# Altium integrated library ALTIUM-WCAP-ASLI-rev16b.IntLib: 107 symbols (part 1 of 2)
Pins are listed as number, name and electrical type; pins without a type are passive.

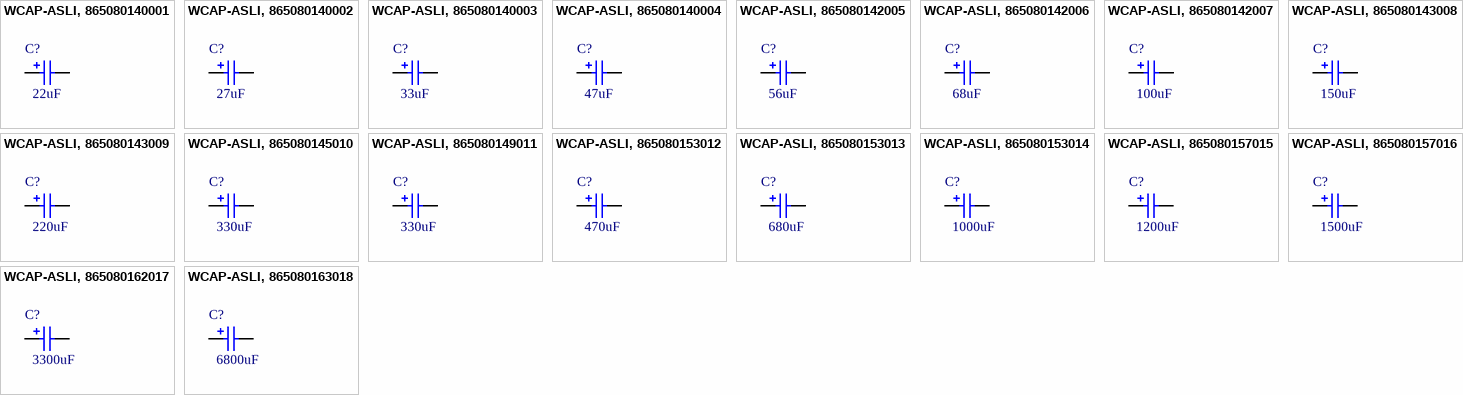
[diagram p0: symbols WCAP-ASLI, 865080140001 to WCAP-ASLI, 865080163018]

## WCAP-ASLI, 865080140001
designator C?, comment 22uF
WCAP-ASLI Aluminum Electrolytic Capacitors, 22uF; PartNumber: 865080140001; RatedVoltage: 6.3V; PublishedDate: July 2016; Publisher: Wurth Elektronik; ComponentLink1Description: Manufacturer; ComponentLink1URL: http://www.we-online.de; ComponentLink2Description: Datasheet; ComponentLink2URL: http://katalog.we-online.com/pbs/datasheet/865080140001.pdf; Value: 22uF; Size: 4mmx5.5mm
footprint WCAP-ASLI_4x5.5
pins: 1 P, 2 N

## WCAP-ASLI, 865080140002
designator C?, comment 27uF
WCAP-ASLI Aluminum Electrolytic Capacitors, 27uF; PartNumber: 865080140002; RatedVoltage: 6.3V; PublishedDate: July 2016; Publisher: Wurth Elektronik; ComponentLink1Description: Manufacturer; ComponentLink1URL: http://www.we-online.de; ComponentLink2Description: Datasheet; ComponentLink2URL: http://katalog.we-online.com/pbs/datasheet/865080140002.pdf; Value: 27uF; Size: 4mmx5.5mm
footprint WCAP-ASLI_4x5.5
pins: 1 P, 2 N

## WCAP-ASLI, 865080140003
designator C?, comment 33uF
WCAP-ASLI Aluminum Electrolytic Capacitors, 33uF; PartNumber: 865080140003; RatedVoltage: 6.3V; PublishedDate: July 2016; Publisher: Wurth Elektronik; ComponentLink1Description: Manufacturer; ComponentLink1URL: http://www.we-online.de; ComponentLink2Description: Datasheet; ComponentLink2URL: http://katalog.we-online.com/pbs/datasheet/865080140003.pdf; Value: 33uF; Size: 4mmx5.5mm
footprint WCAP-ASLI_4x5.5
pins: 1 P, 2 N

## WCAP-ASLI, 865080140004
designator C?, comment 47uF
WCAP-ASLI Aluminum Electrolytic Capacitors, 47uF; PartNumber: 865080140004; RatedVoltage: 6.3V; PublishedDate: July 2016; Publisher: Wurth Elektronik; ComponentLink1Description: Manufacturer; ComponentLink1URL: http://www.we-online.de; ComponentLink2Description: Datasheet; ComponentLink2URL: http://katalog.we-online.com/pbs/datasheet/865080140004.pdf; Value: 47uF; Size: 4mmx5.5mm
footprint WCAP-ASLI_4x5.5
pins: 1 P, 2 N

## WCAP-ASLI, 865080142005
designator C?, comment 56uF
WCAP-ASLI Aluminum Electrolytic Capacitors, 56uF; PartNumber: 865080142005; RatedVoltage: 6.3V; PublishedDate: July 2016; Publisher: Wurth Elektronik; ComponentLink1Description: Manufacturer; ComponentLink1URL: http://www.we-online.de; ComponentLink2Description: Datasheet; ComponentLink2URL: http://katalog.we-online.com/pbs/datasheet/865080142005.pdf; Value: 56uF; Size: 5mmx5.5mm
footprint WCAP-ASLI_5x5.5
pins: 1 P, 2 N

## WCAP-ASLI, 865080142006
designator C?, comment 68uF
WCAP-ASLI Aluminum Electrolytic Capacitors, 68uF; PartNumber: 865080142006; RatedVoltage: 6.3V; PublishedDate: July 2016; Publisher: Wurth Elektronik; ComponentLink1Description: Manufacturer; ComponentLink1URL: http://www.we-online.de; ComponentLink2Description: Datasheet; ComponentLink2URL: http://katalog.we-online.com/pbs/datasheet/865080142006.pdf; Value: 68uF; Size: 5mmx5.5mm
footprint WCAP-ASLI_5x5.5
pins: 1 P, 2 N

## WCAP-ASLI, 865080142007
designator C?, comment 100uF
WCAP-ASLI Aluminum Electrolytic Capacitors, 100uF; PartNumber: 865080142007; RatedVoltage: 6.3V; PublishedDate: July 2016; Publisher: Wurth Elektronik; ComponentLink1Description: Manufacturer; ComponentLink1URL: http://www.we-online.de; ComponentLink2Description: Datasheet; ComponentLink2URL: http://katalog.we-online.com/pbs/datasheet/865080142007.pdf; Value: 100uF; Size: 5mmx5.5mm
footprint WCAP-ASLI_5x5.5
pins: 1 P, 2 N

## WCAP-ASLI, 865080143008
designator C?, comment 150uF
WCAP-ASLI Aluminum Electrolytic Capacitors, 150uF; PartNumber: 865080143008; RatedVoltage: 6.3V; PublishedDate: July 2016; Publisher: Wurth Elektronik; ComponentLink1Description: Manufacturer; ComponentLink1URL: http://www.we-online.de; ComponentLink2Description: Datasheet; ComponentLink2URL: http://katalog.we-online.com/pbs/datasheet/865080143008.pdf; Value: 150uF; Size: 6.3mmx5.5mm
footprint WCAP-ASLI_6.3x5.5
pins: 1 P, 2 N

## WCAP-ASLI, 865080143009
designator C?, comment 220uF
WCAP-ASLI Aluminum Electrolytic Capacitors, 220uF; PartNumber: 865080143009; RatedVoltage: 6.3V; PublishedDate: July 2016; Publisher: Wurth Elektronik; ComponentLink1Description: Manufacturer; ComponentLink1URL: http://www.we-online.de; ComponentLink2Description: Datasheet; ComponentLink2URL: http://katalog.we-online.com/pbs/datasheet/865080143009.pdf; Value: 220uF; Size: 6.3mmx5.5mm
footprint WCAP-ASLI_6.3x5.5
pins: 1 P, 2 N

## WCAP-ASLI, 865080145010
designator C?, comment 330uF
WCAP-ASLI Aluminum Electrolytic Capacitors, 330uF; PartNumber: 865080145010; RatedVoltage: 6.3V; PublishedDate: July 2016; Publisher: Wurth Elektronik; ComponentLink1Description: Manufacturer; ComponentLink1URL: http://www.we-online.de; ComponentLink2Description: Datasheet; ComponentLink2URL: http://katalog.we-online.com/pbs/datasheet/865080145010.pdf; Value: 330uF; Size: 6.3mmx7.7mm
footprint WCAP-ASLI_6.3x7.7
pins: 1 P, 2 N

## WCAP-ASLI, 865080149011
designator C?, comment 330uF
WCAP-ASLI Aluminum Electrolytic Capacitors, 330uF; PartNumber: 865080149011; RatedVoltage: 6.3V; PublishedDate: July 2016; Publisher: Wurth Elektronik; ComponentLink1Description: Manufacturer; ComponentLink1URL: http://www.we-online.de; ComponentLink2Description: Datasheet; ComponentLink2URL: http://katalog.we-online.com/pbs/datasheet/865080149011.pdf; Value: 330uF; Size: 8mmx6.5mm
footprint WCAP-ASLI_8x6.5
pins: 1 P, 2 N

## WCAP-ASLI, 865080153012
designator C?, comment 470uF
WCAP-ASLI Aluminum Electrolytic Capacitors, 470uF; PartNumber: 865080153012; RatedVoltage: 6.3V; PublishedDate: July 2016; Publisher: Wurth Elektronik; ComponentLink1Description: Manufacturer; ComponentLink1URL: http://www.we-online.de; ComponentLink2Description: Datasheet; ComponentLink2URL: http://katalog.we-online.com/pbs/datasheet/865080153012.pdf; Value: 470uF; Size: 8mmx10.5mm
footprint WCAP-ASLI_8x10.5
pins: 1 P, 2 N

## WCAP-ASLI, 865080153013
designator C?, comment 680uF
WCAP-ASLI Aluminum Electrolytic Capacitors, 680uF; PartNumber: 865080153013; RatedVoltage: 6.3V; PublishedDate: July 2016; Publisher: Wurth Elektronik; ComponentLink1Description: Manufacturer; ComponentLink1URL: http://www.we-online.de; ComponentLink2Description: Datasheet; ComponentLink2URL: http://katalog.we-online.com/pbs/datasheet/865080153013.pdf; Value: 680uF; Size: 8mmx10.5mm
footprint WCAP-ASLI_8x10.5
pins: 1 P, 2 N

## WCAP-ASLI, 865080153014
designator C?, comment 1000uF
WCAP-ASLI Aluminum Electrolytic Capacitors, 1000uF; PartNumber: 865080153014; RatedVoltage: 6.3V; PublishedDate: July 2016; Publisher: Wurth Elektronik; ComponentLink1Description: Manufacturer; ComponentLink1URL: http://www.we-online.de; ComponentLink2Description: Datasheet; ComponentLink2URL: http://katalog.we-online.com/pbs/datasheet/865080153014.pdf; Value: 1000uF; Size: 8mmx10.5mm
footprint WCAP-ASLI_8x10.5
pins: 1 P, 2 N

## WCAP-ASLI, 865080157015
designator C?, comment 1200uF
WCAP-ASLI Aluminum Electrolytic Capacitors, 1200uF; PartNumber: 865080157015; RatedVoltage: 6.3V; PublishedDate: July 2016; Publisher: Wurth Elektronik; ComponentLink1Description: Manufacturer; ComponentLink1URL: http://www.we-online.de; ComponentLink2Description: Datasheet; ComponentLink2URL: http://katalog.we-online.com/pbs/datasheet/865080157015.pdf; Value: 1200uF; Size: 10mmx10.5mm
footprint WCAP-ASLI_10x10.5
pins: 1 P, 2 N

## WCAP-ASLI, 865080157016
designator C?, comment 1500uF
WCAP-ASLI Aluminum Electrolytic Capacitors, 1500uF; PartNumber: 865080157016; RatedVoltage: 6.3V; PublishedDate: July 2016; Publisher: Wurth Elektronik; ComponentLink1Description: Manufacturer; ComponentLink1URL: http://www.we-online.de; ComponentLink2Description: Datasheet; ComponentLink2URL: http://katalog.we-online.com/pbs/datasheet/865080157016.pdf; Value: 1500uF; Size: 10mmx10.5mm
footprint WCAP-ASLI_10x10.5
pins: 1 P, 2 N

## WCAP-ASLI, 865080162017
designator C?, comment 3300uF
WCAP-ASLI Aluminum Electrolytic Capacitors, 3300uF; PartNumber: 865080162017; RatedVoltage: 6.3V; PublishedDate: July 2016; Publisher: Wurth Elektronik; ComponentLink1Description: Manufacturer; ComponentLink1URL: http://www.we-online.de; ComponentLink2Description: Datasheet; ComponentLink2URL: http://katalog.we-online.com/pbs/datasheet/865080162017.pdf; Value: 3300uF; Size: 12.5mmx14mm
footprint WCAP-ASLI_12.5x14
pins: 1 P, 2 N

## WCAP-ASLI, 865080163018
designator C?, comment 6800uF
WCAP-ASLI Aluminum Electrolytic Capacitors, 6800uF; PartNumber: 865080163018; RatedVoltage: 6.3V; PublishedDate: July 2016; Publisher: Wurth Elektronik; ComponentLink1Description: Manufacturer; ComponentLink1URL: http://www.we-online.de; ComponentLink2Description: Datasheet; ComponentLink2URL: http://katalog.we-online.com/pbs/datasheet/865080163018.pdf; Value: 6800uF; Size: 16mmx17mm
footprint WCAP-ASLI_16x17
pins: 1 P, 2 N


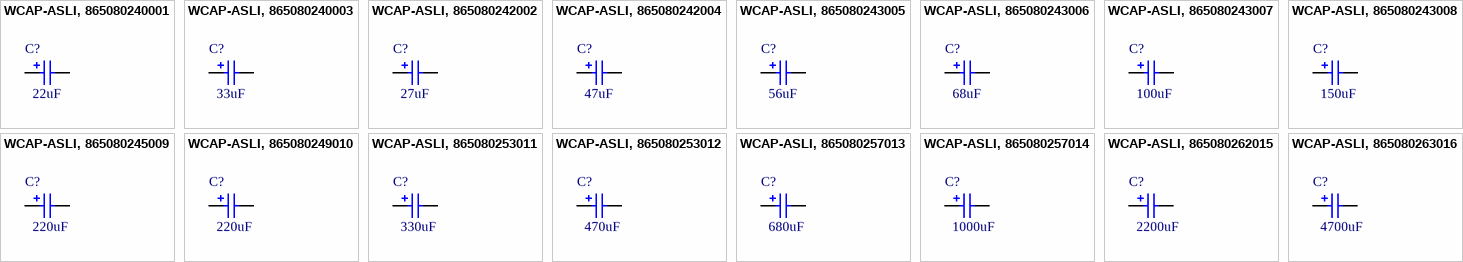
[diagram p1: symbols WCAP-ASLI, 865080240001 to WCAP-ASLI, 865080263016]

## WCAP-ASLI, 865080240001
designator C?, comment 22uF
WCAP-ASLI Aluminum Electrolytic Capacitors, 22uF; PartNumber: 865080240001; RatedVoltage: 10V; PublishedDate: July 2016; Publisher: Wurth Elektronik; ComponentLink1Description: Manufacturer; ComponentLink1URL: http://www.we-online.de; ComponentLink2Description: Datasheet; ComponentLink2URL: http://katalog.we-online.com/pbs/datasheet/865080240001.pdf; Value: 22uF; Size: 4mmx5.5mm
footprint WCAP-ASLI_4x5.5
pins: 1 P, 2 N

## WCAP-ASLI, 865080240003
designator C?, comment 33uF
WCAP-ASLI Aluminum Electrolytic Capacitors, 33uF; PartNumber: 865080240003; RatedVoltage: 10V; PublishedDate: July 2016; Publisher: Wurth Elektronik; ComponentLink1Description: Manufacturer; ComponentLink1URL: http://www.we-online.de; ComponentLink2Description: Datasheet; ComponentLink2URL: http://katalog.we-online.com/pbs/datasheet/865080240003.pdf; Value: 33uF; Size: 4mmx5.5mm
footprint WCAP-ASLI_4x5.5
pins: 1 P, 2 N

## WCAP-ASLI, 865080242002
designator C?, comment 27uF
WCAP-ASLI Aluminum Electrolytic Capacitors, 27uF; PartNumber: 865080242002; RatedVoltage: 10V; PublishedDate: July 2016; Publisher: Wurth Elektronik; ComponentLink1Description: Manufacturer; ComponentLink1URL: http://www.we-online.de; ComponentLink2Description: Datasheet; ComponentLink2URL: http://katalog.we-online.com/pbs/datasheet/865080242002.pdf; Value: 27uF; Size: 5mmx5.5mm
footprint WCAP-ASLI_5x5.5
pins: 1 P, 2 N

## WCAP-ASLI, 865080242004
designator C?, comment 47uF
WCAP-ASLI Aluminum Electrolytic Capacitors, 47uF; PartNumber: 865080242004; RatedVoltage: 10V; PublishedDate: July 2016; Publisher: Wurth Elektronik; ComponentLink1Description: Manufacturer; ComponentLink1URL: http://www.we-online.de; ComponentLink2Description: Datasheet; ComponentLink2URL: http://katalog.we-online.com/pbs/datasheet/865080242004.pdf; Value: 47uF; Size: 5mmx5.5mm
footprint WCAP-ASLI_5x5.5
pins: 1 P, 2 N

## WCAP-ASLI, 865080243005
designator C?, comment 56uF
WCAP-ASLI Aluminum Electrolytic Capacitors, 56uF; PartNumber: 865080243005; RatedVoltage: 10V; PublishedDate: July 2016; Publisher: Wurth Elektronik; ComponentLink1Description: Manufacturer; ComponentLink1URL: http://www.we-online.de; ComponentLink2Description: Datasheet; ComponentLink2URL: http://katalog.we-online.com/pbs/datasheet/865080243005.pdf; Value: 56uF; Size: 6.3mmx5.5mm
footprint WCAP-ASLI_6.3x5.5
pins: 1 P, 2 N

## WCAP-ASLI, 865080243006
designator C?, comment 68uF
WCAP-ASLI Aluminum Electrolytic Capacitors, 68uF; PartNumber: 865080243006; RatedVoltage: 10V; PublishedDate: July 2016; Publisher: Wurth Elektronik; ComponentLink1Description: Manufacturer; ComponentLink1URL: http://www.we-online.de; ComponentLink2Description: Datasheet; ComponentLink2URL: http://katalog.we-online.com/pbs/datasheet/865080243006.pdf; Value: 68uF; Size: 6.3mmx5.5mm
footprint WCAP-ASLI_6.3x5.5
pins: 1 P, 2 N

## WCAP-ASLI, 865080243007
designator C?, comment 100uF
WCAP-ASLI Aluminum Electrolytic Capacitors, 100uF; PartNumber: 865080243007; RatedVoltage: 10V; PublishedDate: July 2016; Publisher: Wurth Elektronik; ComponentLink1Description: Manufacturer; ComponentLink1URL: http://www.we-online.de; ComponentLink2Description: Datasheet; ComponentLink2URL: http://katalog.we-online.com/pbs/datasheet/865080243007.pdf; Value: 100uF; Size: 6.3mmx5.5mm
footprint WCAP-ASLI_6.3x5.5
pins: 1 P, 2 N

## WCAP-ASLI, 865080243008
designator C?, comment 150uF
WCAP-ASLI Aluminum Electrolytic Capacitors, 150uF; PartNumber: 865080243008; RatedVoltage: 10V; PublishedDate: July 2016; Publisher: Wurth Elektronik; ComponentLink1Description: Manufacturer; ComponentLink1URL: http://www.we-online.de; ComponentLink2Description: Datasheet; ComponentLink2URL: http://katalog.we-online.com/pbs/datasheet/865080243008.pdf; Value: 150uF; Size: 6.3mmx5.5mm
footprint WCAP-ASLI_6.3x5.5
pins: 1 P, 2 N

## WCAP-ASLI, 865080245009
designator C?, comment 220uF
WCAP-ASLI Aluminum Electrolytic Capacitors, 220uF; PartNumber: 865080245009; RatedVoltage: 10V; PublishedDate: July 2016; Publisher: Wurth Elektronik; ComponentLink1Description: Manufacturer; ComponentLink1URL: http://www.we-online.de; ComponentLink2Description: Datasheet; ComponentLink2URL: http://katalog.we-online.com/pbs/datasheet/865080245009.pdf; Value: 220uF; Size: 6.3mmx7.7mm
footprint WCAP-ASLI_6.3x7.7
pins: 1 P, 2 N

## WCAP-ASLI, 865080249010
designator C?, comment 220uF
WCAP-ASLI Aluminum Electrolytic Capacitors, 220uF; PartNumber: 865080249010; RatedVoltage: 10V; PublishedDate: July 2016; Publisher: Wurth Elektronik; ComponentLink1Description: Manufacturer; ComponentLink1URL: http://www.we-online.de; ComponentLink2Description: Datasheet; ComponentLink2URL: http://katalog.we-online.com/pbs/datasheet/865080249010.pdf; Value: 220uF; Size: 8mmx6.5mm
footprint WCAP-ASLI_8x6.5
pins: 1 P, 2 N

## WCAP-ASLI, 865080253011
designator C?, comment 330uF
WCAP-ASLI Aluminum Electrolytic Capacitors, 330uF; PartNumber: 865080253011; RatedVoltage: 10V; PublishedDate: July 2016; Publisher: Wurth Elektronik; ComponentLink1Description: Manufacturer; ComponentLink1URL: http://www.we-online.de; ComponentLink2Description: Datasheet; ComponentLink2URL: http://katalog.we-online.com/pbs/datasheet/865080253011.pdf; Value: 330uF; Size: 8mmx10.5mm
footprint WCAP-ASLI_8x10.5
pins: 1 P, 2 N

## WCAP-ASLI, 865080253012
designator C?, comment 470uF
WCAP-ASLI Aluminum Electrolytic Capacitors, 470uF; PartNumber: 865080253012; RatedVoltage: 10V; PublishedDate: July 2016; Publisher: Wurth Elektronik; ComponentLink1Description: Manufacturer; ComponentLink1URL: http://www.we-online.de; ComponentLink2Description: Datasheet; ComponentLink2URL: http://katalog.we-online.com/pbs/datasheet/865080253012.pdf; Value: 470uF; Size: 8mmx10.5mm
footprint WCAP-ASLI_8x10.5
pins: 1 P, 2 N

## WCAP-ASLI, 865080257013
designator C?, comment 680uF
WCAP-ASLI Aluminum Electrolytic Capacitors, 680uF; PartNumber: 865080257013; RatedVoltage: 10V; PublishedDate: July 2016; Publisher: Wurth Elektronik; ComponentLink1Description: Manufacturer; ComponentLink1URL: http://www.we-online.de; ComponentLink2Description: Datasheet; ComponentLink2URL: http://katalog.we-online.com/pbs/datasheet/865080257013.pdf; Value: 680uF; Size: 10mmx10.5mm
footprint WCAP-ASLI_10x10.5
pins: 1 P, 2 N

## WCAP-ASLI, 865080257014
designator C?, comment 1000uF
WCAP-ASLI Aluminum Electrolytic Capacitors, 1000uF; PartNumber: 865080257014; RatedVoltage: 10V; PublishedDate: July 2016; Publisher: Wurth Elektronik; ComponentLink1Description: Manufacturer; ComponentLink1URL: http://www.we-online.de; ComponentLink2Description: Datasheet; ComponentLink2URL: http://katalog.we-online.com/pbs/datasheet/865080257014.pdf; Value: 1000uF; Size: 10mmx10.5mm
footprint WCAP-ASLI_10x10.5
pins: 1 P, 2 N

## WCAP-ASLI, 865080262015
designator C?, comment 2200uF
WCAP-ASLI Aluminum Electrolytic Capacitors, 2200uF; PartNumber: 865080262015; RatedVoltage: 10V; PublishedDate: July 2016; Publisher: Wurth Elektronik; ComponentLink1Description: Manufacturer; ComponentLink1URL: http://www.we-online.de; ComponentLink2Description: Datasheet; ComponentLink2URL: http://katalog.we-online.com/pbs/datasheet/865080262015.pdf; Value: 2200uF; Size: 12.5mmx14mm
footprint WCAP-ASLI_12.5x14
pins: 1 P, 2 N

## WCAP-ASLI, 865080263016
designator C?, comment 4700uF
WCAP-ASLI Aluminum Electrolytic Capacitors, 4700uF; PartNumber: 865080263016; RatedVoltage: 10V; PublishedDate: July 2016; Publisher: Wurth Elektronik; ComponentLink1Description: Manufacturer; ComponentLink1URL: http://www.we-online.de; ComponentLink2Description: Datasheet; ComponentLink2URL: http://katalog.we-online.com/pbs/datasheet/865080263016.pdf; Value: 4700uF; Size: 16mmx17mm
footprint WCAP-ASLI_16x17
pins: 1 P, 2 N


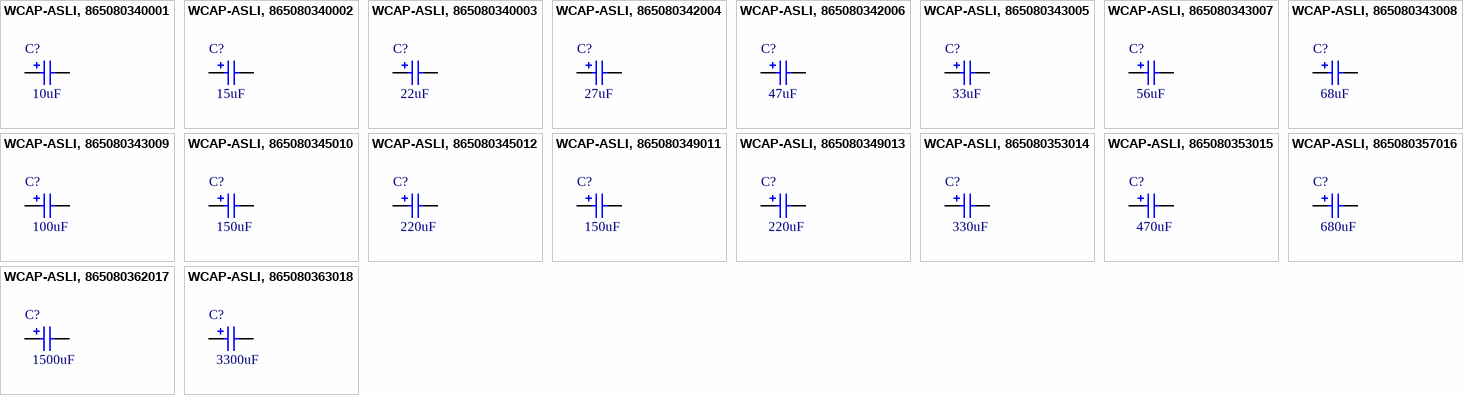
[diagram p2: symbols WCAP-ASLI, 865080340001 to WCAP-ASLI, 865080363018]

## WCAP-ASLI, 865080340001
designator C?, comment 10uF
WCAP-ASLI Aluminum Electrolytic Capacitors, 10uF; PartNumber: 865080340001; RatedVoltage: 16V; PublishedDate: July 2016; Publisher: Wurth Elektronik; ComponentLink1Description: Manufacturer; ComponentLink1URL: http://www.we-online.de; ComponentLink2Description: Datasheet; ComponentLink2URL: http://katalog.we-online.com/pbs/datasheet/865080340001.pdf; Value: 10uF; Size: 4mmx5.5mm
footprint WCAP-ASLI_4x5.5
pins: 1 P, 2 N

## WCAP-ASLI, 865080340002
designator C?, comment 15uF
WCAP-ASLI Aluminum Electrolytic Capacitors, 15uF; PartNumber: 865080340002; RatedVoltage: 16V; PublishedDate: July 2016; Publisher: Wurth Elektronik; ComponentLink1Description: Manufacturer; ComponentLink1URL: http://www.we-online.de; ComponentLink2Description: Datasheet; ComponentLink2URL: http://katalog.we-online.com/pbs/datasheet/865080340002.pdf; Value: 15uF; Size: 4mmx5.5mm
footprint WCAP-ASLI_4x5.5
pins: 1 P, 2 N

## WCAP-ASLI, 865080340003
designator C?, comment 22uF
WCAP-ASLI Aluminum Electrolytic Capacitors, 22uF; PartNumber: 865080340003; RatedVoltage: 16V; PublishedDate: July 2016; Publisher: Wurth Elektronik; ComponentLink1Description: Manufacturer; ComponentLink1URL: http://www.we-online.de; ComponentLink2Description: Datasheet; ComponentLink2URL: http://katalog.we-online.com/pbs/datasheet/865080340003.pdf; Value: 22uF; Size: 4mmx5.5mm
footprint WCAP-ASLI_4x5.5
pins: 1 P, 2 N

## WCAP-ASLI, 865080342004
designator C?, comment 27uF
WCAP-ASLI Aluminum Electrolytic Capacitors, 27uF; PartNumber: 865080342004; RatedVoltage: 16V; PublishedDate: July 2016; Publisher: Wurth Elektronik; ComponentLink1Description: Manufacturer; ComponentLink1URL: http://www.we-online.de; ComponentLink2Description: Datasheet; ComponentLink2URL: http://katalog.we-online.com/pbs/datasheet/865080342004.pdf; Value: 27uF; Size: 5mmx5.5mm
footprint WCAP-ASLI_5x5.5
pins: 1 P, 2 N

## WCAP-ASLI, 865080342006
designator C?, comment 47uF
WCAP-ASLI Aluminum Electrolytic Capacitors, 47uF; PartNumber: 865080342006; RatedVoltage: 16V; PublishedDate: July 2016; Publisher: Wurth Elektronik; ComponentLink1Description: Manufacturer; ComponentLink1URL: http://www.we-online.de; ComponentLink2Description: Datasheet; ComponentLink2URL: http://katalog.we-online.com/pbs/datasheet/865080342006.pdf; Value: 47uF; Size: 5mmx5.5mm
footprint WCAP-ASLI_5x5.5
pins: 1 P, 2 N

## WCAP-ASLI, 865080343005
designator C?, comment 33uF
WCAP-ASLI Aluminum Electrolytic Capacitors, 33uF; PartNumber: 865080343005; RatedVoltage: 16V; PublishedDate: July 2016; Publisher: Wurth Elektronik; ComponentLink1Description: Manufacturer; ComponentLink1URL: http://www.we-online.de; ComponentLink2Description: Datasheet; ComponentLink2URL: http://katalog.we-online.com/pbs/datasheet/865080343005.pdf; Value: 33uF; Size: 6.3mmx5.5mm
footprint WCAP-ASLI_6.3x5.5
pins: 1 P, 2 N

## WCAP-ASLI, 865080343007
designator C?, comment 56uF
WCAP-ASLI Aluminum Electrolytic Capacitors, 56uF; PartNumber: 865080343007; RatedVoltage: 16V; PublishedDate: July 2016; Publisher: Wurth Elektronik; ComponentLink1Description: Manufacturer; ComponentLink1URL: http://www.we-online.de; ComponentLink2Description: Datasheet; ComponentLink2URL: http://katalog.we-online.com/pbs/datasheet/865080343007.pdf; Value: 56uF; Size: 6.3mmx5.5mm
footprint WCAP-ASLI_6.3x5.5
pins: 1 P, 2 N

## WCAP-ASLI, 865080343008
designator C?, comment 68uF
WCAP-ASLI Aluminum Electrolytic Capacitors, 68uF; PartNumber: 865080343008; RatedVoltage: 16V; PublishedDate: July 2016; Publisher: Wurth Elektronik; ComponentLink1Description: Manufacturer; ComponentLink1URL: http://www.we-online.de; ComponentLink2Description: Datasheet; ComponentLink2URL: http://katalog.we-online.com/pbs/datasheet/865080343008.pdf; Value: 68uF; Size: 6.3mmx5.5mm
footprint WCAP-ASLI_6.3x5.5
pins: 1 P, 2 N

## WCAP-ASLI, 865080343009
designator C?, comment 100uF
WCAP-ASLI Aluminum Electrolytic Capacitors, 100uF; PartNumber: 865080343009; RatedVoltage: 16V; PublishedDate: July 2016; Publisher: Wurth Elektronik; ComponentLink1Description: Manufacturer; ComponentLink1URL: http://www.we-online.de; ComponentLink2Description: Datasheet; ComponentLink2URL: http://katalog.we-online.com/pbs/datasheet/865080343009.pdf; Value: 100uF; Size: 6.3mmx5.5mm
footprint WCAP-ASLI_6.3x5.5
pins: 1 P, 2 N

## WCAP-ASLI, 865080345010
designator C?, comment 150uF
WCAP-ASLI Aluminum Electrolytic Capacitors, 150uF; PartNumber: 865080345010; RatedVoltage: 16V; PublishedDate: July 2016; Publisher: Wurth Elektronik; ComponentLink1Description: Manufacturer; ComponentLink1URL: http://www.we-online.de; ComponentLink2Description: Datasheet; ComponentLink2URL: http://katalog.we-online.com/pbs/datasheet/865080345010.pdf; Value: 150uF; Size: 6.3mmx7.7mm
footprint WCAP-ASLI_6.3x7.7
pins: 1 P, 2 N

## WCAP-ASLI, 865080345012
designator C?, comment 220uF
WCAP-ASLI Aluminum Electrolytic Capacitors, 220uF; PartNumber: 865080345012; RatedVoltage: 16V; PublishedDate: July 2016; Publisher: Wurth Elektronik; ComponentLink1Description: Manufacturer; ComponentLink1URL: http://www.we-online.de; ComponentLink2Description: Datasheet; ComponentLink2URL: http://katalog.we-online.com/pbs/datasheet/865080345012.pdf; Value: 220uF; Size: 6.3mmx7.7mm
footprint WCAP-ASLI_6.3x7.7
pins: 1 P, 2 N

## WCAP-ASLI, 865080349011
designator C?, comment 150uF
WCAP-ASLI Aluminum Electrolytic Capacitors, 150uF; PartNumber: 865080349011; RatedVoltage: 16V; PublishedDate: July 2016; Publisher: Wurth Elektronik; ComponentLink1Description: Manufacturer; ComponentLink1URL: http://www.we-online.de; ComponentLink2Description: Datasheet; ComponentLink2URL: http://katalog.we-online.com/pbs/datasheet/865080349011.pdf; Value: 150uF; Size: 8mmx6.5mm
footprint WCAP-ASLI_8x6.5
pins: 1 P, 2 N

## WCAP-ASLI, 865080349013
designator C?, comment 220uF
WCAP-ASLI Aluminum Electrolytic Capacitors, 220uF; PartNumber: 865080349013; RatedVoltage: 16V; PublishedDate: July 2016; Publisher: Wurth Elektronik; ComponentLink1Description: Manufacturer; ComponentLink1URL: http://www.we-online.de; ComponentLink2Description: Datasheet; ComponentLink2URL: http://katalog.we-online.com/pbs/datasheet/865080349013.pdf; Value: 220uF; Size: 8mmx6.5mm
footprint WCAP-ASLI_8x6.5
pins: 1 P, 2 N

## WCAP-ASLI, 865080353014
designator C?, comment 330uF
WCAP-ASLI Aluminum Electrolytic Capacitors, 330uF; PartNumber: 865080353014; RatedVoltage: 16V; PublishedDate: July 2016; Publisher: Wurth Elektronik; ComponentLink1Description: Manufacturer; ComponentLink1URL: http://www.we-online.de; ComponentLink2Description: Datasheet; ComponentLink2URL: http://katalog.we-online.com/pbs/datasheet/865080353014.pdf; Value: 330uF; Size: 8mmx10.5mm
footprint WCAP-ASLI_8x10.5
pins: 1 P, 2 N

## WCAP-ASLI, 865080353015
designator C?, comment 470uF
WCAP-ASLI Aluminum Electrolytic Capacitors, 470uF; PartNumber: 865080353015; RatedVoltage: 16V; PublishedDate: July 2016; Publisher: Wurth Elektronik; ComponentLink1Description: Manufacturer; ComponentLink1URL: http://www.we-online.de; ComponentLink2Description: Datasheet; ComponentLink2URL: http://katalog.we-online.com/pbs/datasheet/865080353015.pdf; Value: 470uF; Size: 8mmx10.5mm
footprint WCAP-ASLI_8x10.5
pins: 1 P, 2 N

## WCAP-ASLI, 865080357016
designator C?, comment 680uF
WCAP-ASLI Aluminum Electrolytic Capacitors, 680uF; PartNumber: 865080357016; RatedVoltage: 16V; PublishedDate: July 2016; Publisher: Wurth Elektronik; ComponentLink1Description: Manufacturer; ComponentLink1URL: http://www.we-online.de; ComponentLink2Description: Datasheet; ComponentLink2URL: http://katalog.we-online.com/pbs/datasheet/865080357016.pdf; Value: 680uF; Size: 10mmx10.5mm
footprint WCAP-ASLI_10x10.5
pins: 1 P, 2 N

## WCAP-ASLI, 865080362017
designator C?, comment 1500uF
WCAP-ASLI Aluminum Electrolytic Capacitors, 1500uF; PartNumber: 865080362017; RatedVoltage: 16V; PublishedDate: July 2016; Publisher: Wurth Elektronik; ComponentLink1Description: Manufacturer; ComponentLink1URL: http://www.we-online.de; ComponentLink2Description: Datasheet; ComponentLink2URL: http://katalog.we-online.com/pbs/datasheet/865080362017.pdf; Value: 1500uF; Size: 12.5mmx14mm
footprint WCAP-ASLI_12.5x14
pins: 1 P, 2 N

## WCAP-ASLI, 865080363018
designator C?, comment 3300uF
WCAP-ASLI Aluminum Electrolytic Capacitors, 3300uF; PartNumber: 865080363018; RatedVoltage: 16V; PublishedDate: July 2016; Publisher: Wurth Elektronik; ComponentLink1Description: Manufacturer; ComponentLink1URL: http://www.we-online.de; ComponentLink2Description: Datasheet; ComponentLink2URL: http://katalog.we-online.com/pbs/datasheet/865080363018.pdf; Value: 3300uF; Size: 16mmx17mm
footprint WCAP-ASLI_16x17
pins: 1 P, 2 N


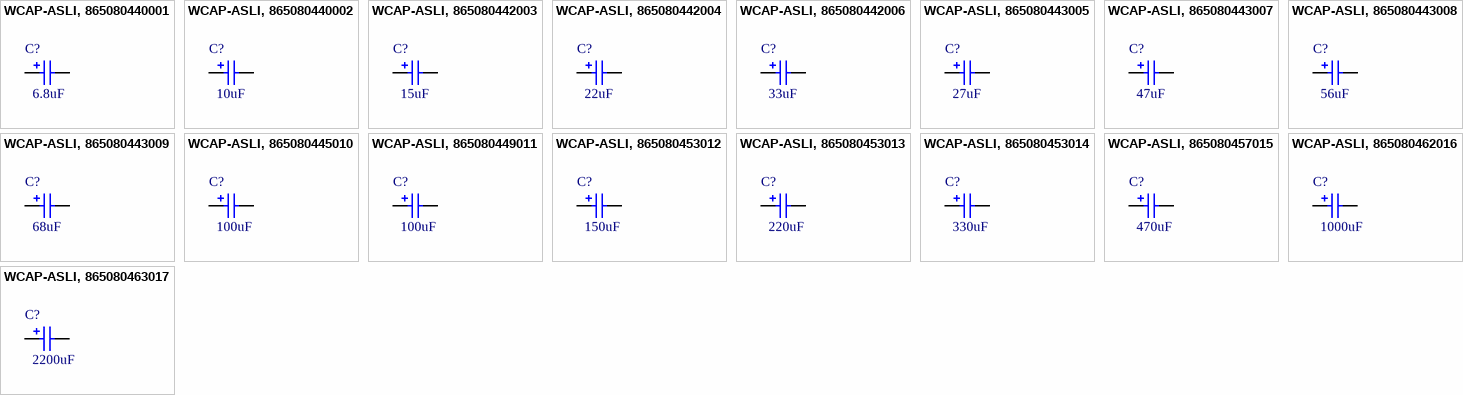
[diagram p3: symbols WCAP-ASLI, 865080440001 to WCAP-ASLI, 865080463017]

## WCAP-ASLI, 865080440001
designator C?, comment 6.8uF
WCAP-ASLI Aluminum Electrolytic Capacitors, 6.8uF; PartNumber: 865080440001; RatedVoltage: 25V; PublishedDate: July 2016; Publisher: Wurth Elektronik; ComponentLink1Description: Manufacturer; ComponentLink1URL: http://www.we-online.de; ComponentLink2Description: Datasheet; ComponentLink2URL: http://katalog.we-online.com/pbs/datasheet/865080440001.pdf; Value: 6.8uF; Size: 4mmx5.5mm
footprint WCAP-ASLI_4x5.5
pins: 1 P, 2 N

## WCAP-ASLI, 865080440002
designator C?, comment 10uF
WCAP-ASLI Aluminum Electrolytic Capacitors, 10uF; PartNumber: 865080440002; RatedVoltage: 25V; PublishedDate: July 2016; Publisher: Wurth Elektronik; ComponentLink1Description: Manufacturer; ComponentLink1URL: http://www.we-online.de; ComponentLink2Description: Datasheet; ComponentLink2URL: http://katalog.we-online.com/pbs/datasheet/865080440002.pdf; Value: 10uF; Size: 4mmx5.5mm
footprint WCAP-ASLI_4x5.5
pins: 1 P, 2 N

## WCAP-ASLI, 865080442003
designator C?, comment 15uF
WCAP-ASLI Aluminum Electrolytic Capacitors, 15uF; PartNumber: 865080442003; RatedVoltage: 25V; PublishedDate: July 2016; Publisher: Wurth Elektronik; ComponentLink1Description: Manufacturer; ComponentLink1URL: http://www.we-online.de; ComponentLink2Description: Datasheet; ComponentLink2URL: http://katalog.we-online.com/pbs/datasheet/865080442003.pdf; Value: 15uF; Size: 5mmx5.5mm
footprint WCAP-ASLI_5x5.5
pins: 1 P, 2 N

## WCAP-ASLI, 865080442004
designator C?, comment 22uF
WCAP-ASLI Aluminum Electrolytic Capacitors, 22uF; PartNumber: 865080442004; RatedVoltage: 25V; PublishedDate: July 2016; Publisher: Wurth Elektronik; ComponentLink1Description: Manufacturer; ComponentLink1URL: http://www.we-online.de; ComponentLink2Description: Datasheet; ComponentLink2URL: http://katalog.we-online.com/pbs/datasheet/865080442004.pdf; Value: 22uF; Size: 5mmx5.5mm
footprint WCAP-ASLI_5x5.5
pins: 1 P, 2 N

## WCAP-ASLI, 865080442006
designator C?, comment 33uF
WCAP-ASLI Aluminum Electrolytic Capacitors, 33uF; PartNumber: 865080442006; RatedVoltage: 25V; PublishedDate: July 2016; Publisher: Wurth Elektronik; ComponentLink1Description: Manufacturer; ComponentLink1URL: http://www.we-online.de; ComponentLink2Description: Datasheet; ComponentLink2URL: http://katalog.we-online.com/pbs/datasheet/865080442006.pdf; Value: 33uF; Size: 5mmx5.5mm
footprint WCAP-ASLI_5x5.5
pins: 1 P, 2 N

## WCAP-ASLI, 865080443005
designator C?, comment 27uF
WCAP-ASLI Aluminum Electrolytic Capacitors, 27uF; PartNumber: 865080443005; RatedVoltage: 25V; PublishedDate: July 2016; Publisher: Wurth Elektronik; ComponentLink1Description: Manufacturer; ComponentLink1URL: http://www.we-online.de; ComponentLink2Description: Datasheet; ComponentLink2URL: http://katalog.we-online.com/pbs/datasheet/865080443005.pdf; Value: 27uF; Size: 6.3mmx5.5mm
footprint WCAP-ASLI_6.3x5.5
pins: 1 P, 2 N

## WCAP-ASLI, 865080443007
designator C?, comment 47uF
WCAP-ASLI Aluminum Electrolytic Capacitors, 47uF; PartNumber: 865080443007; RatedVoltage: 25V; PublishedDate: July 2016; Publisher: Wurth Elektronik; ComponentLink1Description: Manufacturer; ComponentLink1URL: http://www.we-online.de; ComponentLink2Description: Datasheet; ComponentLink2URL: http://katalog.we-online.com/pbs/datasheet/865080443007.pdf; Value: 47uF; Size: 6.3mmx5.5mm
footprint WCAP-ASLI_6.3x5.5
pins: 1 P, 2 N

## WCAP-ASLI, 865080443008
designator C?, comment 56uF
WCAP-ASLI Aluminum Electrolytic Capacitors, 56uF; PartNumber: 865080443008; RatedVoltage: 25V; PublishedDate: July 2016; Publisher: Wurth Elektronik; ComponentLink1Description: Manufacturer; ComponentLink1URL: http://www.we-online.de; ComponentLink2Description: Datasheet; ComponentLink2URL: http://katalog.we-online.com/pbs/datasheet/865080443008.pdf; Value: 56uF; Size: 6.3mmx5.5mm
footprint WCAP-ASLI_6.3x5.5
pins: 1 P, 2 N

## WCAP-ASLI, 865080443009
designator C?, comment 68uF
WCAP-ASLI Aluminum Electrolytic Capacitors, 68uF; PartNumber: 865080443009; RatedVoltage: 25V; PublishedDate: July 2016; Publisher: Wurth Elektronik; ComponentLink1Description: Manufacturer; ComponentLink1URL: http://www.we-online.de; ComponentLink2Description: Datasheet; ComponentLink2URL: http://katalog.we-online.com/pbs/datasheet/865080443009.pdf; Value: 68uF; Size: 6.3mmx5.5mm
footprint WCAP-ASLI_6.3x5.5
pins: 1 P, 2 N

## WCAP-ASLI, 865080445010
designator C?, comment 100uF
WCAP-ASLI Aluminum Electrolytic Capacitors, 100uF; PartNumber: 865080445010; RatedVoltage: 25V; PublishedDate: July 2016; Publisher: Wurth Elektronik; ComponentLink1Description: Manufacturer; ComponentLink1URL: http://www.we-online.de; ComponentLink2Description: Datasheet; ComponentLink2URL: http://katalog.we-online.com/pbs/datasheet/865080445010.pdf; Value: 100uF; Size: 6.3mmx7.7mm
footprint WCAP-ASLI_6.3x7.7
pins: 1 P, 2 N

## WCAP-ASLI, 865080449011
designator C?, comment 100uF
WCAP-ASLI Aluminum Electrolytic Capacitors, 100uF; PartNumber: 865080449011; RatedVoltage: 25V; PublishedDate: July 2016; Publisher: Wurth Elektronik; ComponentLink1Description: Manufacturer; ComponentLink1URL: http://www.we-online.de; ComponentLink2Description: Datasheet; ComponentLink2URL: http://katalog.we-online.com/pbs/datasheet/865080449011.pdf; Value: 100uF; Size: 8mmx6.5mm
footprint WCAP-ASLI_8x6.5
pins: 1 P, 2 N

## WCAP-ASLI, 865080453012
designator C?, comment 150uF
WCAP-ASLI Aluminum Electrolytic Capacitors, 150uF; PartNumber: 865080453012; RatedVoltage: 25V; PublishedDate: July 2016; Publisher: Wurth Elektronik; ComponentLink1Description: Manufacturer; ComponentLink1URL: http://www.we-online.de; ComponentLink2Description: Datasheet; ComponentLink2URL: http://katalog.we-online.com/pbs/datasheet/865080453012.pdf; Value: 150uF; Size: 8mmx10.5mm
footprint WCAP-ASLI_8x10.5
pins: 1 P, 2 N

## WCAP-ASLI, 865080453013
designator C?, comment 220uF
WCAP-ASLI Aluminum Electrolytic Capacitors, 220uF; PartNumber: 865080453013; RatedVoltage: 25V; PublishedDate: July 2016; Publisher: Wurth Elektronik; ComponentLink1Description: Manufacturer; ComponentLink1URL: http://www.we-online.de; ComponentLink2Description: Datasheet; ComponentLink2URL: http://katalog.we-online.com/pbs/datasheet/865080453013.pdf; Value: 220uF; Size: 8mmx10.5mm
footprint WCAP-ASLI_8x10.5
pins: 1 P, 2 N

## WCAP-ASLI, 865080453014
designator C?, comment 330uF
WCAP-ASLI Aluminum Electrolytic Capacitors, 330uF; PartNumber: 865080453014; RatedVoltage: 25V; PublishedDate: July 2016; Publisher: Wurth Elektronik; ComponentLink1Description: Manufacturer; ComponentLink1URL: http://www.we-online.de; ComponentLink2Description: Datasheet; ComponentLink2URL: http://katalog.we-online.com/pbs/datasheet/865080453014.pdf; Value: 330uF; Size: 8mmx10.5mm
footprint WCAP-ASLI_8x10.5
pins: 1 P, 2 N

## WCAP-ASLI, 865080457015
designator C?, comment 470uF
WCAP-ASLI Aluminum Electrolytic Capacitors, 470uF; PartNumber: 865080457015; RatedVoltage: 25V; PublishedDate: July 2016; Publisher: Wurth Elektronik; ComponentLink1Description: Manufacturer; ComponentLink1URL: http://www.we-online.de; ComponentLink2Description: Datasheet; ComponentLink2URL: http://katalog.we-online.com/pbs/datasheet/865080457015.pdf; Value: 470uF; Size: 10mmx10.5mm
footprint WCAP-ASLI_10x10.5
pins: 1 P, 2 N

## WCAP-ASLI, 865080462016
designator C?, comment 1000uF
WCAP-ASLI Aluminum Electrolytic Capacitors, 1000uF; PartNumber: 865080462016; RatedVoltage: 25V; PublishedDate: July 2016; Publisher: Wurth Elektronik; ComponentLink1Description: Manufacturer; ComponentLink1URL: http://www.we-online.de; ComponentLink2Description: Datasheet; ComponentLink2URL: http://katalog.we-online.com/pbs/datasheet/865080462016.pdf; Value: 1000uF; Size: 12.5mmx14mm
footprint WCAP-ASLI_12.5x14
pins: 1 P, 2 N

## WCAP-ASLI, 865080463017
designator C?, comment 2200uF
WCAP-ASLI Aluminum Electrolytic Capacitors, 2200uF; PartNumber: 865080463017; RatedVoltage: 25V; PublishedDate: July 2016; Publisher: Wurth Elektronik; ComponentLink1Description: Manufacturer; ComponentLink1URL: http://www.we-online.de; ComponentLink2Description: Datasheet; ComponentLink2URL: http://katalog.we-online.com/pbs/datasheet/865080463017.pdf; Value: 2200uF; Size: 16mmx17mm
footprint WCAP-ASLI_16x17
pins: 1 P, 2 N


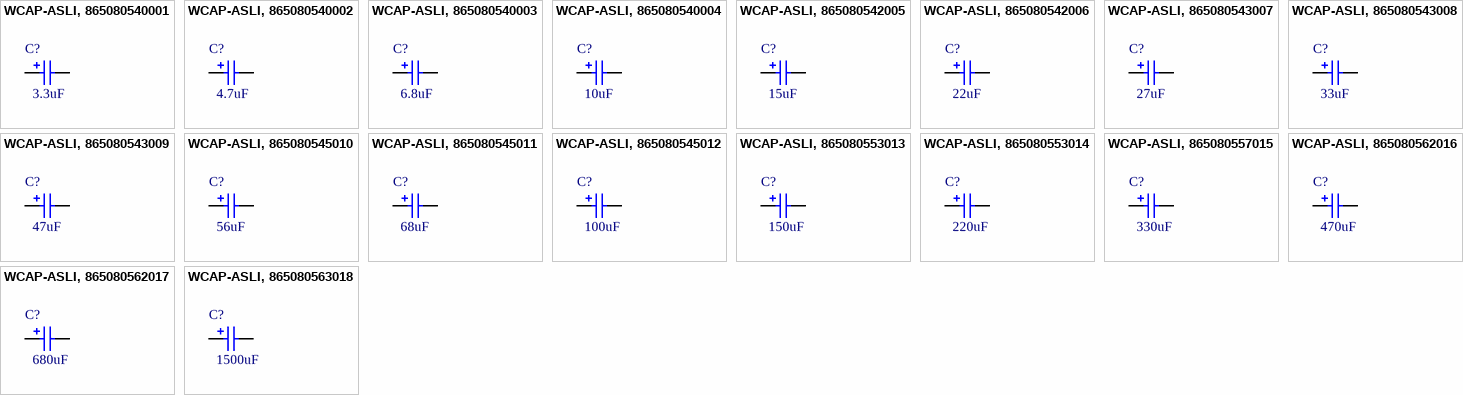
[diagram p4: symbols WCAP-ASLI, 865080540001 to WCAP-ASLI, 865080563018]

## WCAP-ASLI, 865080540001
designator C?, comment 3.3uF
WCAP-ASLI Aluminum Electrolytic Capacitors, 3.3uF; PartNumber: 865080540001; RatedVoltage: 35V; PublishedDate: July 2016; Publisher: Wurth Elektronik; ComponentLink1Description: Manufacturer; ComponentLink1URL: http://www.we-online.de; ComponentLink2Description: Datasheet; ComponentLink2URL: http://katalog.we-online.com/pbs/datasheet/865080540001.pdf; Value: 3.3uF; Size: 4mmx5.5mm
footprint WCAP-ASLI_4x5.5
pins: 1 P, 2 N

## WCAP-ASLI, 865080540002
designator C?, comment 4.7uF
WCAP-ASLI Aluminum Electrolytic Capacitors, 4.7uF; PartNumber: 865080540002; RatedVoltage: 35V; PublishedDate: July 2016; Publisher: Wurth Elektronik; ComponentLink1Description: Manufacturer; ComponentLink1URL: http://www.we-online.de; ComponentLink2Description: Datasheet; ComponentLink2URL: http://katalog.we-online.com/pbs/datasheet/865080540002.pdf; Value: 4.7uF; Size: 4mmx5.5mm
footprint WCAP-ASLI_4x5.5
pins: 1 P, 2 N

## WCAP-ASLI, 865080540003
designator C?, comment 6.8uF
WCAP-ASLI Aluminum Electrolytic Capacitors, 6.8uF; PartNumber: 865080540003; RatedVoltage: 35V; PublishedDate: July 2016; Publisher: Wurth Elektronik; ComponentLink1Description: Manufacturer; ComponentLink1URL: http://www.we-online.de; ComponentLink2Description: Datasheet; ComponentLink2URL: http://katalog.we-online.com/pbs/datasheet/865080540003.pdf; Value: 6.8uF; Size: 4mmx5.5mm
footprint WCAP-ASLI_4x5.5
pins: 1 P, 2 N

## WCAP-ASLI, 865080540004
designator C?, comment 10uF
WCAP-ASLI Aluminum Electrolytic Capacitors, 10uF; PartNumber: 865080540004; RatedVoltage: 35V; PublishedDate: July 2016; Publisher: Wurth Elektronik; ComponentLink1Description: Manufacturer; ComponentLink1URL: http://www.we-online.de; ComponentLink2Description: Datasheet; ComponentLink2URL: http://katalog.we-online.com/pbs/datasheet/865080540004.pdf; Value: 10uF; Size: 4mmx5.5mm
footprint WCAP-ASLI_4x5.5
pins: 1 P, 2 N

## WCAP-ASLI, 865080542005
designator C?, comment 15uF
WCAP-ASLI Aluminum Electrolytic Capacitors, 15uF; PartNumber: 865080542005; RatedVoltage: 35V; PublishedDate: July 2016; Publisher: Wurth Elektronik; ComponentLink1Description: Manufacturer; ComponentLink1URL: http://www.we-online.de; ComponentLink2Description: Datasheet; ComponentLink2URL: http://katalog.we-online.com/pbs/datasheet/865080542005.pdf; Value: 15uF; Size: 5mmx5.5mm
footprint WCAP-ASLI_5x5.5
pins: 1 P, 2 N

## WCAP-ASLI, 865080542006
designator C?, comment 22uF
WCAP-ASLI Aluminum Electrolytic Capacitors, 22uF; PartNumber: 865080542006; RatedVoltage: 35V; PublishedDate: July 2016; Publisher: Wurth Elektronik; ComponentLink1Description: Manufacturer; ComponentLink1URL: http://www.we-online.de; ComponentLink2Description: Datasheet; ComponentLink2URL: http://katalog.we-online.com/pbs/datasheet/865080542006.pdf; Value: 22uF; Size: 5mmx5.5mm
footprint WCAP-ASLI_5x5.5
pins: 1 P, 2 N

## WCAP-ASLI, 865080543007
designator C?, comment 27uF
WCAP-ASLI Aluminum Electrolytic Capacitors, 27uF; PartNumber: 865080543007; RatedVoltage: 35V; PublishedDate: July 2016; Publisher: Wurth Elektronik; ComponentLink1Description: Manufacturer; ComponentLink1URL: http://www.we-online.de; ComponentLink2Description: Datasheet; ComponentLink2URL: http://katalog.we-online.com/pbs/datasheet/865080543007.pdf; Value: 27uF; Size: 6.3mmx5.5mm
footprint WCAP-ASLI_6.3x5.5
pins: 1 P, 2 N

## WCAP-ASLI, 865080543008
designator C?, comment 33uF
WCAP-ASLI Aluminum Electrolytic Capacitors, 33uF; PartNumber: 865080543008; RatedVoltage: 35V; PublishedDate: July 2016; Publisher: Wurth Elektronik; ComponentLink1Description: Manufacturer; ComponentLink1URL: http://www.we-online.de; ComponentLink2Description: Datasheet; ComponentLink2URL: http://katalog.we-online.com/pbs/datasheet/865080543008.pdf; Value: 33uF; Size: 6.3mmx5.5mm
footprint WCAP-ASLI_6.3x5.5
pins: 1 P, 2 N

## WCAP-ASLI, 865080543009
designator C?, comment 47uF
WCAP-ASLI Aluminum Electrolytic Capacitors, 47uF; PartNumber: 865080543009; RatedVoltage: 35V; PublishedDate: July 2016; Publisher: Wurth Elektronik; ComponentLink1Description: Manufacturer; ComponentLink1URL: http://www.we-online.de; ComponentLink2Description: Datasheet; ComponentLink2URL: http://katalog.we-online.com/pbs/datasheet/865080543009.pdf; Value: 47uF; Size: 6.3mmx5.5mm
footprint WCAP-ASLI_6.3x5.5
pins: 1 P, 2 N

## WCAP-ASLI, 865080545010
designator C?, comment 56uF
WCAP-ASLI Aluminum Electrolytic Capacitors, 56uF; PartNumber: 865080545010; RatedVoltage: 35V; PublishedDate: July 2016; Publisher: Wurth Elektronik; ComponentLink1Description: Manufacturer; ComponentLink1URL: http://www.we-online.de; ComponentLink2Description: Datasheet; ComponentLink2URL: http://katalog.we-online.com/pbs/datasheet/865080545010.pdf; Value: 56uF; Size: 6.3mmx7.7mm
footprint WCAP-ASLI_6.3x7.7
pins: 1 P, 2 N

## WCAP-ASLI, 865080545011
designator C?, comment 68uF
WCAP-ASLI Aluminum Electrolytic Capacitors, 68uF; PartNumber: 865080545011; RatedVoltage: 35V; PublishedDate: July 2016; Publisher: Wurth Elektronik; ComponentLink1Description: Manufacturer; ComponentLink1URL: http://www.we-online.de; ComponentLink2Description: Datasheet; ComponentLink2URL: http://katalog.we-online.com/pbs/datasheet/865080545011.pdf; Value: 68uF; Size: 6.3mmx7.7mm
footprint WCAP-ASLI_6.3x7.7
pins: 1 P, 2 N

## WCAP-ASLI, 865080545012
designator C?, comment 100uF
WCAP-ASLI Aluminum Electrolytic Capacitors, 100uF; PartNumber: 865080545012; RatedVoltage: 35V; PublishedDate: July 2016; Publisher: Wurth Elektronik; ComponentLink1Description: Manufacturer; ComponentLink1URL: http://www.we-online.de; ComponentLink2Description: Datasheet; ComponentLink2URL: http://katalog.we-online.com/pbs/datasheet/865080545012.pdf; Value: 100uF; Size: 6.3mmx7.7mm
footprint WCAP-ASLI_6.3x7.7
pins: 1 P, 2 N

## WCAP-ASLI, 865080553013
designator C?, comment 150uF
WCAP-ASLI Aluminum Electrolytic Capacitors, 150uF; PartNumber: 865080553013; RatedVoltage: 35V; PublishedDate: July 2016; Publisher: Wurth Elektronik; ComponentLink1Description: Manufacturer; ComponentLink1URL: http://www.we-online.de; ComponentLink2Description: Datasheet; ComponentLink2URL: http://katalog.we-online.com/pbs/datasheet/865080553013.pdf; Value: 150uF; Size: 8mmx10.5mm
footprint WCAP-ASLI_8x10.5
pins: 1 P, 2 N

## WCAP-ASLI, 865080553014
designator C?, comment 220uF
WCAP-ASLI Aluminum Electrolytic Capacitors, 220uF; PartNumber: 865080553014; RatedVoltage: 35V; PublishedDate: July 2016; Publisher: Wurth Elektronik; ComponentLink1Description: Manufacturer; ComponentLink1URL: http://www.we-online.de; ComponentLink2Description: Datasheet; ComponentLink2URL: http://katalog.we-online.com/pbs/datasheet/865080553014.pdf; Value: 220uF; Size: 8mmx10.5mm
footprint WCAP-ASLI_8x10.5
pins: 1 P, 2 N

## WCAP-ASLI, 865080557015
designator C?, comment 330uF
WCAP-ASLI Aluminum Electrolytic Capacitors, 330uF; PartNumber: 865080557015; RatedVoltage: 35V; PublishedDate: July 2016; Publisher: Wurth Elektronik; ComponentLink1Description: Manufacturer; ComponentLink1URL: http://www.we-online.de; ComponentLink2Description: Datasheet; ComponentLink2URL: http://katalog.we-online.com/pbs/datasheet/865080557015.pdf; Value: 330uF; Size: 10mmx10.5mm
footprint WCAP-ASLI_10x10.5
pins: 1 P, 2 N

## WCAP-ASLI, 865080562016
designator C?, comment 470uF
WCAP-ASLI Aluminum Electrolytic Capacitors, 470uF; PartNumber: 865080562016; RatedVoltage: 35V; PublishedDate: July 2016; Publisher: Wurth Elektronik; ComponentLink1Description: Manufacturer; ComponentLink1URL: http://www.we-online.de; ComponentLink2Description: Datasheet; ComponentLink2URL: http://katalog.we-online.com/pbs/datasheet/865080562016.pdf; Value: 470uF; Size: 12.5mmx14mm
footprint WCAP-ASLI_12.5x14
pins: 1 P, 2 N

## WCAP-ASLI, 865080562017
designator C?, comment 680uF
WCAP-ASLI Aluminum Electrolytic Capacitors, 680uF; PartNumber: 865080562017; RatedVoltage: 35V; PublishedDate: July 2016; Publisher: Wurth Elektronik; ComponentLink1Description: Manufacturer; ComponentLink1URL: http://www.we-online.de; ComponentLink2Description: Datasheet; ComponentLink2URL: http://katalog.we-online.com/pbs/datasheet/865080562017.pdf; Value: 680uF; Size: 12.5mmx14mm
footprint WCAP-ASLI_12.5x14
pins: 1 P, 2 N

## WCAP-ASLI, 865080563018
designator C?, comment 1500uF
WCAP-ASLI Aluminum Electrolytic Capacitors, 1500uF; PartNumber: 865080563018; RatedVoltage: 35V; PublishedDate: July 2016; Publisher: Wurth Elektronik; ComponentLink1Description: Manufacturer; ComponentLink1URL: http://www.we-online.de; ComponentLink2Description: Datasheet; ComponentLink2URL: http://katalog.we-online.com/pbs/datasheet/865080563018.pdf; Value: 1500uF; Size: 16mmx17mm
footprint WCAP-ASLI_16x17
pins: 1 P, 2 N


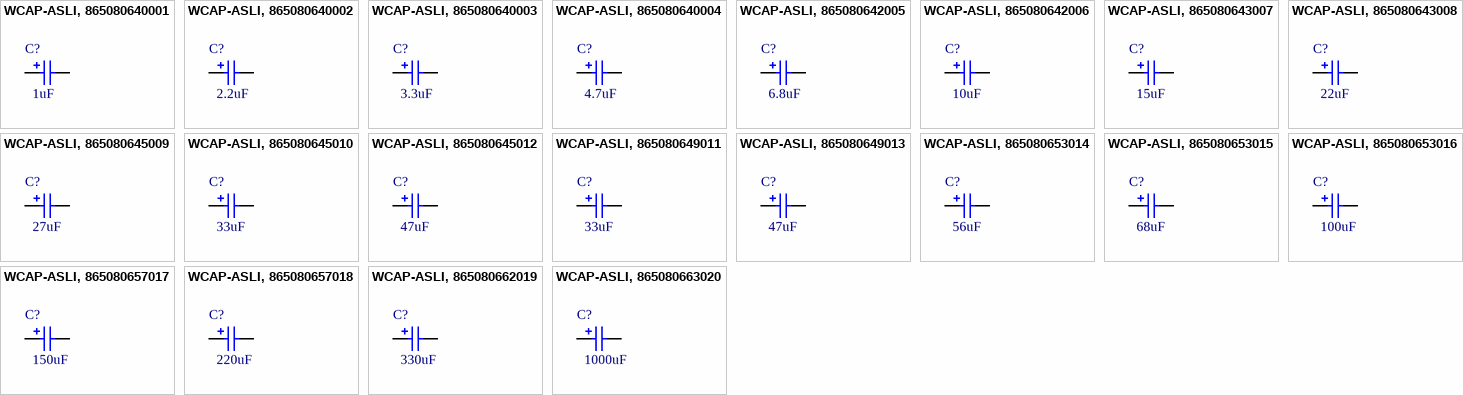
[diagram p5: symbols WCAP-ASLI, 865080640001 to WCAP-ASLI, 865080663020]

## WCAP-ASLI, 865080640001
designator C?, comment 1uF
WCAP-ASLI Aluminum Electrolytic Capacitors, 1uF; PartNumber: 865080640001; RatedVoltage: 50V; PublishedDate: July 2016; Publisher: Wurth Elektronik; ComponentLink1Description: Manufacturer; ComponentLink1URL: http://www.we-online.de; ComponentLink2Description: Datasheet; ComponentLink2URL: http://katalog.we-online.com/pbs/datasheet/865080640001.pdf; Value: 1uF; Size: 4mmx5.5mm
footprint WCAP-ASLI_4x5.5
pins: 1 P, 2 N

## WCAP-ASLI, 865080640002
designator C?, comment 2.2uF
WCAP-ASLI Aluminum Electrolytic Capacitors, 2.2uF; PartNumber: 865080640002; RatedVoltage: 50V; PublishedDate: July 2016; Publisher: Wurth Elektronik; ComponentLink1Description: Manufacturer; ComponentLink1URL: http://www.we-online.de; ComponentLink2Description: Datasheet; ComponentLink2URL: http://katalog.we-online.com/pbs/datasheet/865080640002.pdf; Value: 2.2uF; Size: 4mmx5.5mm
footprint WCAP-ASLI_4x5.5
pins: 1 P, 2 N

## WCAP-ASLI, 865080640003
designator C?, comment 3.3uF
WCAP-ASLI Aluminum Electrolytic Capacitors, 3.3uF; PartNumber: 865080640003; RatedVoltage: 50V; PublishedDate: July 2016; Publisher: Wurth Elektronik; ComponentLink1Description: Manufacturer; ComponentLink1URL: http://www.we-online.de; ComponentLink2Description: Datasheet; ComponentLink2URL: http://katalog.we-online.com/pbs/datasheet/865080640003.pdf; Value: 3.3uF; Size: 4mmx5.5mm
footprint WCAP-ASLI_4x5.5
pins: 1 P, 2 N

## WCAP-ASLI, 865080640004
designator C?, comment 4.7uF
WCAP-ASLI Aluminum Electrolytic Capacitors, 4.7uF; PartNumber: 865080640004; RatedVoltage: 50V; PublishedDate: July 2016; Publisher: Wurth Elektronik; ComponentLink1Description: Manufacturer; ComponentLink1URL: http://www.we-online.de; ComponentLink2Description: Datasheet; ComponentLink2URL: http://katalog.we-online.com/pbs/datasheet/865080640004.pdf; Value: 4.7uF; Size: 4mmx5.5mm
footprint WCAP-ASLI_4x5.5
pins: 1 P, 2 N

## WCAP-ASLI, 865080642005
designator C?, comment 6.8uF
WCAP-ASLI Aluminum Electrolytic Capacitors, 6.8uF; PartNumber: 865080642005; RatedVoltage: 50V; PublishedDate: July 2016; Publisher: Wurth Elektronik; ComponentLink1Description: Manufacturer; ComponentLink1URL: http://www.we-online.de; ComponentLink2Description: Datasheet; ComponentLink2URL: http://katalog.we-online.com/pbs/datasheet/865080642005.pdf; Value: 6.8uF; Size: 5mmx5.5mm
footprint WCAP-ASLI_5x5.5
pins: 1 P, 2 N

## WCAP-ASLI, 865080642006
designator C?, comment 10uF
WCAP-ASLI Aluminum Electrolytic Capacitors, 10uF; PartNumber: 865080642006; RatedVoltage: 50V; PublishedDate: July 2016; Publisher: Wurth Elektronik; ComponentLink1Description: Manufacturer; ComponentLink1URL: http://www.we-online.de; ComponentLink2Description: Datasheet; ComponentLink2URL: http://katalog.we-online.com/pbs/datasheet/865080642006.pdf; Value: 10uF; Size: 5mmx5.5mm
footprint WCAP-ASLI_5x5.5
pins: 1 P, 2 N

## WCAP-ASLI, 865080643007
designator C?, comment 15uF
WCAP-ASLI Aluminum Electrolytic Capacitors, 15uF; PartNumber: 865080643007; RatedVoltage: 50V; PublishedDate: July 2016; Publisher: Wurth Elektronik; ComponentLink1Description: Manufacturer; ComponentLink1URL: http://www.we-online.de; ComponentLink2Description: Datasheet; ComponentLink2URL: http://katalog.we-online.com/pbs/datasheet/865080643007.pdf; Value: 15uF; Size: 6.3mmx5.5mm
footprint WCAP-ASLI_6.3x5.5
pins: 1 P, 2 N

## WCAP-ASLI, 865080643008
designator C?, comment 22uF
WCAP-ASLI Aluminum Electrolytic Capacitors, 22uF; PartNumber: 865080643008; RatedVoltage: 50V; PublishedDate: July 2016; Publisher: Wurth Elektronik; ComponentLink1Description: Manufacturer; ComponentLink1URL: http://www.we-online.de; ComponentLink2Description: Datasheet; ComponentLink2URL: http://katalog.we-online.com/pbs/datasheet/865080643008.pdf; Value: 22uF; Size: 6.3mmx5.5mm
footprint WCAP-ASLI_6.3x5.5
pins: 1 P, 2 N

## WCAP-ASLI, 865080645009
designator C?, comment 27uF
WCAP-ASLI Aluminum Electrolytic Capacitors, 27uF; PartNumber: 865080645009; RatedVoltage: 50V; PublishedDate: July 2016; Publisher: Wurth Elektronik; ComponentLink1Description: Manufacturer; ComponentLink1URL: http://www.we-online.de; ComponentLink2Description: Datasheet; ComponentLink2URL: http://katalog.we-online.com/pbs/datasheet/865080645009.pdf; Value: 27uF; Size: 6.3mmx7.7mm
footprint WCAP-ASLI_6.3x7.7
pins: 1 P, 2 N

## WCAP-ASLI, 865080645010
designator C?, comment 33uF
WCAP-ASLI Aluminum Electrolytic Capacitors, 33uF; PartNumber: 865080645010; RatedVoltage: 50V; PublishedDate: July 2016; Publisher: Wurth Elektronik; ComponentLink1Description: Manufacturer; ComponentLink1URL: http://www.we-online.de; ComponentLink2Description: Datasheet; ComponentLink2URL: http://katalog.we-online.com/pbs/datasheet/865080645010.pdf; Value: 33uF; Size: 6.3mmx7.7mm
footprint WCAP-ASLI_6.3x7.7
pins: 1 P, 2 N

## WCAP-ASLI, 865080645012
designator C?, comment 47uF
WCAP-ASLI Aluminum Electrolytic Capacitors, 47uF; PartNumber: 865080645012; RatedVoltage: 50V; PublishedDate: July 2016; Publisher: Wurth Elektronik; ComponentLink1Description: Manufacturer; ComponentLink1URL: http://www.we-online.de; ComponentLink2Description: Datasheet; ComponentLink2URL: http://katalog.we-online.com/pbs/datasheet/865080645012.pdf; Value: 47uF; Size: 6.3mmx7.7mm
footprint WCAP-ASLI_6.3x7.7
pins: 1 P, 2 N

## WCAP-ASLI, 865080649011
designator C?, comment 33uF
WCAP-ASLI Aluminum Electrolytic Capacitors, 33uF; PartNumber: 865080649011; RatedVoltage: 50V; PublishedDate: July 2016; Publisher: Wurth Elektronik; ComponentLink1Description: Manufacturer; ComponentLink1URL: http://www.we-online.de; ComponentLink2Description: Datasheet; ComponentLink2URL: http://katalog.we-online.com/pbs/datasheet/865080649011.pdf; Value: 33uF; Size: 8mmx6.5mm
footprint WCAP-ASLI_8x6.5
pins: 1 P, 2 N

## WCAP-ASLI, 865080649013
designator C?, comment 47uF
WCAP-ASLI Aluminum Electrolytic Capacitors, 47uF; PartNumber: 865080649013; RatedVoltage: 50V; PublishedDate: July 2016; Publisher: Wurth Elektronik; ComponentLink1Description: Manufacturer; ComponentLink1URL: http://www.we-online.de; ComponentLink2Description: Datasheet; ComponentLink2URL: http://katalog.we-online.com/pbs/datasheet/865080649013.pdf; Value: 47uF; Size: 8mmx6.5mm
footprint WCAP-ASLI_8x6.5
pins: 1 P, 2 N

## WCAP-ASLI, 865080653014
designator C?, comment 56uF
WCAP-ASLI Aluminum Electrolytic Capacitors, 56uF; PartNumber: 865080653014; RatedVoltage: 50V; PublishedDate: July 2016; Publisher: Wurth Elektronik; ComponentLink1Description: Manufacturer; ComponentLink1URL: http://www.we-online.de; ComponentLink2Description: Datasheet; ComponentLink2URL: http://katalog.we-online.com/pbs/datasheet/865080653014.pdf; Value: 56uF; Size: 8mmx10.5mm
footprint WCAP-ASLI_8x10.5
pins: 1 P, 2 N

## WCAP-ASLI, 865080653015
designator C?, comment 68uF
WCAP-ASLI Aluminum Electrolytic Capacitors, 68uF; PartNumber: 865080653015; RatedVoltage: 50V; PublishedDate: July 2016; Publisher: Wurth Elektronik; ComponentLink1Description: Manufacturer; ComponentLink1URL: http://www.we-online.de; ComponentLink2Description: Datasheet; ComponentLink2URL: http://katalog.we-online.com/pbs/datasheet/865080653015.pdf; Value: 68uF; Size: 8mmx10.5mm
footprint WCAP-ASLI_8x10.5
pins: 1 P, 2 N